# Altium footprint library QFN.PcbLib: 19 footprints (part 1 of 2)
Each footprint in its own frame and in the unit in brackets; x right, y up, seen from the top. Pads: shape width x height; smd on the part's side, far side on the other; paste and mask are expansions set on the pad; w line width, h text height; cw(c..) or ccw(c..) is an arc to the next point about the centre after c.
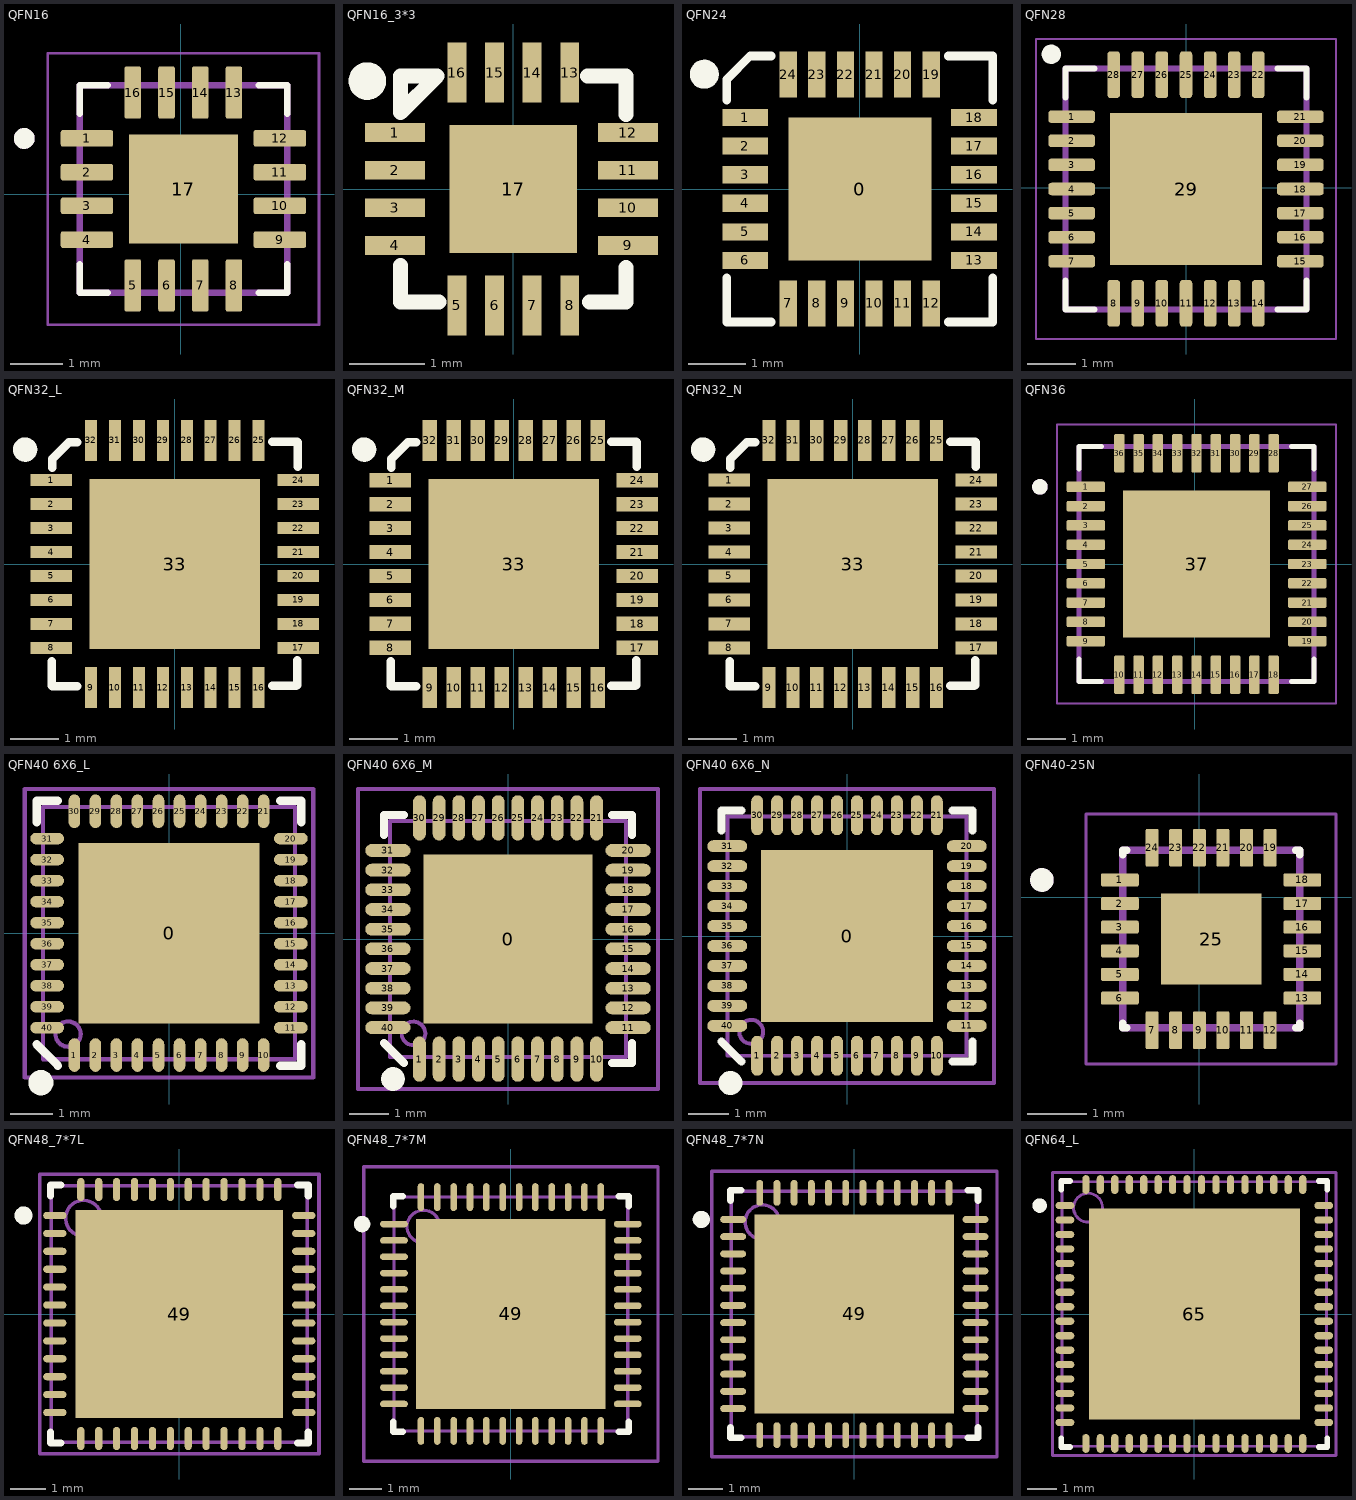
[diagram p0: the footprints below, top view; thin cyan lines are the x and y axes]

## QFN16 [mm]
pads (17):
  rrect25% 1.01x0.32 smd: 1(-1.809,1.077) 2(-1.809,0.427) 3(-1.809,-0.223) 4(-1.809,-0.873) 9(1.911,-0.873) 10(1.911,-0.223) 11(1.911,0.427) 12(1.911,1.077)
  rrect25% 0.32x1.01 smd: 5(-0.924,-1.758) 6(-0.274,-1.758) 7(0.376,-1.758) 8(1.026,-1.758) 13(1.026,1.962) 14(0.376,1.962) 15(-0.274,1.962) 16(-0.924,1.962)
  rect 2.1x2.1 smd paste-0.39: 17(0.051,0.102)
Top Overlay:
  circle w0.2: c-3.019,1.077 r0.1
  lines w0.127: -1.949,-1.353 -1.949,-1.898 -1.404,-1.898 ; -1.949,1.557 -1.949,2.102 -1.404,2.102 ; 1.506,-1.898 2.051,-1.898 2.051,-1.353 ; 1.506,2.102 2.051,2.102 2.051,1.557
Mechanical 13:
  circle w0.2: c-3.019,1.077 r0.1
  lines w0.127: -1.949,-1.898 -1.949,2.102 2.051,2.102 2.051,-1.898 -1.949,-1.898
Mechanical 15:
  lines w0.05: -2.564,-2.513 -2.564,2.717 2.666,2.717 2.666,-2.513 -2.564,-2.513
3D body "step_temp.STEP": height 0.9, standoff 0, extent -1.949,-1.898 2.051,2.102

## QFN16_3*3 [mm] "QFN, 16-Leads, Body 3.0x3.0mm (max), Pitch 0.50mm, IPC Low Density"
height 3
pads (17):
  rect 0.8x0.25 smd: 1(-1.575,0.75) 2(-1.575,0.25) 3(-1.575,-0.25) 4(-1.575,-0.75) 9(1.524,-0.75) 10(1.524,-0.25) 11(1.524,0.25) 12(1.524,0.75)
  rect 0.25x0.8 smd: 5(-0.75,-1.55) 6(-0.25,-1.55) 7(0.25,-1.55) 8(0.75,-1.55) 13(0.75,1.55) 14(0.25,1.55) 15(-0.25,1.55) 16(-0.75,1.55)
  rect 1.7x1.7 smd: 17(0,0)
Top Overlay:
  circle w0.25: c-1.941,1.436 r0.125
  lines w0.2: -1.5,-1.015 -1.5,-1.5 -0.989,-1.5 ; 0.989,1.5 1.5,1.5 1.5,0.989 ; 1.016,-1.5 1.5,-1.5 1.5,-1.041 ; -1.5,1.016 -1.5,1.5 -1.016,1.5 -1.5,1.016
3D body "QFN-16_3x3.STEP": height 0.9, standoff 0, extent -1.549,-1.521 1.493,1.521

## QFN24 [mm]
pads (25):
  rect 2.5x2.5 smd: 0(0.005,0)
  rect 0.8x0.3 smd: 1(-2,1.25) 2(-2,0.75) 3(-2,0.25) 4(-2,-0.25) 5(-2,-0.75) 6(-2,-1.25) 13(2,-1.25) 14(2,-0.75) 15(2,-0.25) 16(2,0.25) 17(2,0.75) 18(2,1.25)
  rect 0.3x0.8 smd: 7(-1.25,-2) 8(-0.75,-2) 9(-0.25,-2) 10(0.25,-2) 11(0.75,-2) 12(1.25,-2) 19(1.25,2) 20(0.75,2) 21(0.25,2) 22(-0.25,2) 23(-0.75,2) 24(-1.25,2)
Top Overlay:
  circle w0.254: c-2.718,2.007 r0.127
  lines w0.15: -2.325,-1.55 -2.325,-2.325 -1.55,-2.325 ; -2.325,1.55 -2.325,1.917 -1.917,2.325 -1.55,2.325 ; 1.55,-2.325 2.325,-2.325 2.325,-1.55 ; 1.55,2.325 2.325,2.325 2.325,1.55
3D body "QFN24.step": height 0.9, standoff 0, extent -1.997,-2.002 2.007,2.002

## QFN28 [mm]
pads (29):
  rrect50% 0.97x0.26 smd: 1(-2.37,1.475) 2(-2.37,0.975) 3(-2.37,0.475) 4(-2.37,-0.025) 5(-2.37,-0.525) 6(-2.37,-1.025) 7(-2.37,-1.525) 15(2.37,-1.525) 16(2.37,-1.025) 17(2.37,-0.525) 18(2.37,-0.025) 19(2.37,0.475) 20(2.37,0.975) 21(2.37,1.475)
  rrect50% 0.26x0.97 smd: 8(-1.5,-2.395) 9(-1,-2.395) 10(-0.5,-2.395) 11(0,-2.395) 12(0.5,-2.395) 13(1,-2.395) 14(1.5,-2.395) 22(1.5,2.345) 23(1,2.345) 24(0.5,2.345) 25(0,2.345) 26(-0.5,2.345) 27(-1,2.345) 28(-1.5,2.345)
  rect 3.15x3.15 smd paste-0.585: 29(0,-0.025)
Top Overlay:
  circle w0.2: c-2.794,2.769 r0.1
  lines w0.127: -2.5,-1.925 -2.5,-2.525 -1.9,-2.525 ; -2.5,1.875 -2.5,2.475 -1.9,2.475 ; 1.9,-2.525 2.5,-2.525 2.5,-1.925 ; 1.9,2.475 2.5,2.475 2.5,1.875
Mechanical 13:
  lines w0.127: -2.5,-2.525 -2.5,2.475 2.5,2.475 2.5,-2.525 -2.5,-2.525
Mechanical 15:
  lines w0.05: -3.11,-3.135 -3.11,3.085 3.11,3.085 3.11,-3.135 -3.11,-3.135
3D body "CP2102GM.STEP": height 1, standoff 0, extent -2.54,-2.485 2.46,2.515

## QFN32_L [mil]
pads (33):
  rect 34x9.84 smd: 1(-101.5,68.92) 2(-101.5,49.23) 3(-101.5,29.54) 4(-101.5,9.85) 5(-101.5,-9.85) 6(-101.5,-29.54) 7(-101.5,-49.23) 8(-101.5,-68.92) 17(101.5,-68.92) 18(101.5,-49.23) 19(101.5,-29.54) 20(101.5,-9.85) 21(101.5,9.85) 22(101.5,29.54) 23(101.5,49.23) 24(101.5,68.92)
  rect 9.84x34 smd: 9(-68.92,-101.5) 10(-49.23,-101.5) 11(-29.54,-101.5) 12(-9.85,-101.5) 13(9.85,-101.5) 14(29.54,-101.5) 15(49.23,-101.5) 16(68.92,-101.5) 25(68.92,101.5) 26(49.23,101.5) 27(29.54,101.5) 28(9.85,101.5) 29(-9.85,101.5) 30(-29.54,101.5) 31(-49.23,101.5) 32(-68.92,101.5)
  rect 140x140 smd: 33(0,0)
Top Overlay:
  circle w10: c-123,94 r5
  lines w7: -101,-80 -101,-100 -100.5,-100.5 -80,-100.5 ; -100.5,79 -100.5,86.5 -87,100 -80,100 ; 80,-100 100,-100 100.5,-99.5 100.5,-79 ; 80,100.5 100.5,100.5 101,100 101,80
3D body "qfn32-5x5.step": height 31.5, standoff 0, extent -98.2,-98.81 99.44,98.82

## QFN32_M [mil]
pads (33):
  rect 34x11.81 smd: 1(-101.5,68.92) 2(-101.5,49.23) 3(-101.5,29.54) 4(-101.5,9.85) 5(-101.5,-9.85) 6(-101.5,-29.54) 7(-101.5,-49.23) 8(-101.5,-68.92) 17(101.5,-68.92) 18(101.5,-49.23) 19(101.5,-29.54) 20(101.5,-9.85) 21(101.5,9.85) 22(101.5,29.54) 23(101.5,49.23) 24(101.5,68.92)
  rect 11.81x34 smd: 9(-68.92,-101.5) 10(-49.23,-101.5) 11(-29.54,-101.5) 12(-9.85,-101.5) 13(9.85,-101.5) 14(29.54,-101.5) 15(49.23,-101.5) 16(68.92,-101.5) 25(68.92,101.5) 26(49.23,101.5) 27(29.54,101.5) 28(9.85,101.5) 29(-9.85,101.5) 30(-29.54,101.5) 31(-49.23,101.5) 32(-68.92,101.5)
  rect 140x140 smd: 33(0,0)
Top Overlay:
  circle w10: c-123,94 r5
  lines w7: -101,-80 -101,-100 -100.5,-100.5 -80,-100.5 ; -100.5,79 -100.5,86.5 -87,100 -80,100 ; 80,-100 100,-100 100.5,-99.5 100.5,-79 ; 80,100.5 100.5,100.5 101,100 101,80
3D body "qfn32-5x5.step": height 31.5, standoff 0, extent -98.2,-98.81 99.44,98.82

## QFN32_N [mil]
pads (33):
  rect 34x10.83 smd: 1(-101.5,68.92) 2(-101.5,49.23) 3(-101.5,29.54) 4(-101.5,9.85) 5(-101.5,-9.85) 6(-101.5,-29.54) 7(-101.5,-49.23) 8(-101.5,-68.92) 17(101.5,-68.92) 18(101.5,-49.23) 19(101.5,-29.54) 20(101.5,-9.85) 21(101.5,9.85) 22(101.5,29.54) 23(101.5,49.23) 24(101.5,68.92)
  rect 10.83x34 smd: 9(-68.92,-101.5) 10(-49.23,-101.5) 11(-29.54,-101.5) 12(-9.85,-101.5) 13(9.85,-101.5) 14(29.54,-101.5) 15(49.23,-101.5) 16(68.92,-101.5) 25(68.92,101.5) 26(49.23,101.5) 27(29.54,101.5) 28(9.85,101.5) 29(-9.85,101.5) 30(-29.54,101.5) 31(-49.23,101.5) 32(-68.92,101.5)
  rect 140x140 smd: 33(0,0)
Top Overlay:
  circle w10: c-123,94 r5
  lines w7: -101,-80 -101,-100 -100.5,-100.5 -80,-100.5 ; -100.5,79 -100.5,86.5 -87,100 -80,100 ; 80,-100 100,-100 100.5,-99.5 100.5,-79 ; 80,100.5 100.5,100.5 101,100 101,80
3D body "qfn32-5x5.step": height 31.5, standoff 0, extent -98.2,-98.81 99.44,98.82

## QFN36 [mm]
pads (37):
  rrect25% 0.99x0.27 smd: 1(-2.819,2) 2(-2.819,1.5) 3(-2.819,1) 4(-2.819,0.5) 5(-2.819,0) 6(-2.819,-0.5) 7(-2.819,-1) 8(-2.819,-1.5) 9(-2.819,-2) 19(2.921,-2) 20(2.921,-1.5) 21(2.921,-1) 22(2.921,-0.5) 23(2.921,0) 24(2.921,0.5) 25(2.921,1) 26(2.921,1.5) 27(2.921,2)
  rrect25% 0.27x0.99 smd: 10(-1.949,-2.87) 11(-1.449,-2.87) 12(-0.949,-2.87) 13(-0.449,-2.87) 14(0.051,-2.87) 15(0.551,-2.87) 16(1.051,-2.87) 17(1.551,-2.87) 18(2.051,-2.87) 28(2.051,2.87) 29(1.551,2.87) 30(1.051,2.87) 31(0.551,2.87) 32(0.051,2.87) 33(-0.449,2.87) 34(-0.949,2.87) 35(-1.449,2.87) 36(-1.949,2.87)
  rect 3.8x3.8 smd paste-3: 37(0.051,0)
Top Overlay:
  circle w0.2: c-4.009,2 r0.1
  lines w0.127: -2.999,-2.455 -2.999,-3.05 -2.404,-3.05 ; -2.999,2.455 -2.999,3.05 -2.404,3.05 ; 2.506,-3.05 3.101,-3.05 3.101,-2.455 ; 2.506,3.05 3.101,3.05 3.101,2.455
Top Paste:
  region: 1.251,-1.2 -1.149,-1.2 -1.149,1.2 1.251,1.2
Mechanical 13:
  circle w0.2: c-4.009,2 r0.1
  lines w0.127: -2.999,-3.05 -2.999,3.05 3.101,3.05 3.101,-3.05 -2.999,-3.05
Mechanical 15:
  lines w0.05: -3.564,-3.615 -3.564,3.615 3.666,3.615 3.666,-3.615 -3.564,-3.615
3D body "ALSRobot-QFN36 6x6.STEP": height 0.9, standoff 0.01, extent -3.052,-3.103 3.153,3.102

## QFN40 6X6_L [mm] "40½Å£¬Ìå¿í£º6x6mm£¬½Å¾à£º0.5mm"
pads (41):
  rect 4.3x4.3 smd mask+0.051: 0(0,0)
  oval 0.275x0.8 smd mask+0.051: 1(-2.25,-2.898) 2(-1.75,-2.898) 3(-1.25,-2.898) 4(-0.75,-2.898) 5(-0.25,-2.898) 6(0.25,-2.898) 7(0.75,-2.898) 8(1.25,-2.898) 9(1.75,-2.898) 10(2.25,-2.898) 21(2.25,2.898) 22(1.75,2.898) 23(1.25,2.898) 24(0.75,2.898) 25(0.25,2.898) 26(-0.25,2.898) 27(-0.75,2.898) 28(-1.25,2.898) 29(-1.75,2.898) 30(-2.25,2.898)
  oval 0.8x0.275 smd mask+0.051: 11(2.898,-2.25) 12(2.898,-1.75) 13(2.898,-1.25) 14(2.898,-0.75) 15(2.898,-0.25) 16(2.898,0.25) 17(2.898,0.75) 18(2.898,1.25) 19(2.898,1.75) 20(2.898,2.25) 31(-2.898,2.25) 32(-2.898,1.75) 33(-2.898,1.25) 34(-2.898,0.75) 35(-2.898,0.25) 36(-2.898,-0.25) 37(-2.898,-0.75) 38(-2.898,-1.25) 39(-2.898,-1.75) 40(-2.898,-2.25)
Top Overlay:
  circle w0.3: c-3.048,-3.556 r0.15
  lines w0.2: -3.15,-2.642 -2.642,-3.15 ; -3.15,2.642 -3.15,3.15 -2.642,3.15 ; 2.642,-3.15 3.15,-3.15 3.15,-2.642 ; 2.642,3.15 3.15,3.15 3.15,2.642
Mechanical 13:
  circle w0.1: c-2.4,-2.4 r0.3
  lines w0.1: -3,-3 3,-3 3,3 -3,3 -3,-3
Mechanical 15:
  circle w0.05: c0,0 r0.35
  lines w0.05: -0.5,0 0.5,0 ; 0,-0.5 0,0.5
  lines w0.1: -3.429,-3.429 3.429,-3.429 3.429,3.429 -3.429,3.429 -3.429,-3.429
3D body "QFN40-6X6.STEP": height 0.95, standoff -0.02, extent -3.01,-3.01 3.01,3.01

## QFN40 6X6_M [mm] "40½Å£¬Ìå¿í£º6x6mm£¬½Å¾à£º0.5mm"
pads (41):
  rect 4.3x4.3 smd mask+0.051: 0(0,0)
  oval 0.325x1.15 smd mask+0.051: 1(-2.25,-3.051) 2(-1.75,-3.051) 3(-1.25,-3.051) 4(-0.75,-3.051) 5(-0.25,-3.051) 6(0.25,-3.051) 7(0.75,-3.051) 8(1.25,-3.051) 9(1.75,-3.051) 10(2.25,-3.051) 21(2.25,3.076) 22(1.75,3.076) 23(1.25,3.076) 24(0.75,3.076) 25(0.25,3.076) 26(-0.25,3.076) 27(-0.75,3.076) 28(-1.25,3.076) 29(-1.75,3.076) 30(-2.25,3.076)
  oval 1.15x0.325 smd mask+0.051: 11(3.051,-2.25) 12(3.051,-1.75) 13(3.051,-1.25) 14(3.051,-0.75) 15(3.051,-0.25) 16(3.051,0.25) 17(3.051,0.75) 18(3.051,1.25) 19(3.051,1.75) 20(3.051,2.25) 31(-3.051,2.25) 32(-3.051,1.75) 33(-3.051,1.25) 34(-3.051,0.75) 35(-3.051,0.25) 36(-3.051,-0.25) 37(-3.051,-0.75) 38(-3.051,-1.25) 39(-3.051,-1.75) 40(-3.051,-2.25)
Top Overlay:
  circle w0.3: c-2.921,-3.556 r0.15
  lines w0.2: -3.15,-2.642 -2.642,-3.15 ; -3.15,2.642 -3.15,3.15 -2.642,3.15 ; 2.642,-3.15 3.15,-3.15 3.15,-2.642 ; 2.642,3.15 3.15,3.15 3.15,2.642
Mechanical 13:
  circle w0.1: c-2.4,-2.4 r0.3
  lines w0.1: -3,-3 -3,3 3,3 3,-3 -3,-3
Mechanical 15:
  circle w0.05: c0,0 r0.35
  lines w0.05: -0.5,0 0.5,0 ; 0,-0.5 0,0.5
  lines w0.1: -3.81,-3.81 3.81,-3.81 3.81,3.81 -3.81,3.81 -3.81,-3.81
3D body "QFN40-6X6.STEP": height 0.9, standoff -0.07, extent -3.01,-3.01 3.01,3.01

## QFN40 6X6_N [mm] "40½Å£¬Ìå¿í£º6x6mm£¬½Å¾à£º0.5mm"
pads (41):
  rect 4.3x4.3 smd mask+0.051: 0(0,0)
  oval 0.3x1 smd mask+0.051: 1(-2.25,-3) 2(-1.75,-3) 3(-1.25,-3) 4(-0.75,-3) 5(-0.25,-3) 6(0.25,-3) 7(0.75,-3) 8(1.25,-3) 9(1.75,-3) 10(2.25,-3) 21(2.25,3.025) 22(1.75,3.025) 23(1.25,3.025) 24(0.75,3.025) 25(0.25,3.025) 26(-0.25,3.025) 27(-0.75,3.025) 28(-1.25,3.025) 29(-1.75,3.025) 30(-2.25,3.025)
  oval 1x0.3 smd mask+0.051: 11(3,-2.25) 12(3,-1.75) 13(3,-1.25) 14(3,-0.75) 15(3,-0.25) 16(3,0.25) 17(3,0.75) 18(3,1.25) 19(3,1.75) 20(3,2.25) 31(-3,2.25) 32(-3,1.75) 33(-3,1.25) 34(-3,0.75) 35(-3,0.25) 36(-3,-0.25) 37(-3,-0.75) 38(-3,-1.25) 39(-3,-1.75) 40(-3,-2.25)
Top Overlay:
  circle w0.3: c-2.921,-3.683 r0.15
  lines w0.2: -3.15,-2.642 -2.642,-3.15 ; -3.15,2.642 -3.15,3.15 -2.642,3.15 ; 2.642,-3.15 3.15,-3.15 3.15,-2.642 ; 2.642,3.15 3.15,3.15 3.15,2.642
Mechanical 13:
  circle w0.1: c-2.4,-2.4 r0.3
  lines w0.1: -3,-3 -3,3 3,3 3,-3 -3,-3
Mechanical 15:
  circle w0.05: c0,0 r0.35
  lines w0.05: -0.5,0 0.5,0 ; 0,-0.5 0,0.5
  lines w0.1: -3.683,-3.683 -3.683,3.683 3.683,3.683 3.683,-3.683 -3.683,-3.683
3D body "QFN40-6X6.STEP": height 0.95, standoff -0.02, extent -3.01,-3.01 3.01,3.01

## QFN40-25N [mm]
pads (25):
  rrect25% 0.64x0.22 smd: 1(-1.342,0.289) 2(-1.342,-0.111) 3(-1.342,-0.511) 4(-1.342,-0.911) 5(-1.342,-1.311) 6(-1.342,-1.711) 13(1.748,-1.711) 14(1.748,-1.311) 15(1.748,-0.911) 16(1.748,-0.511) 17(1.748,-0.111) 18(1.748,0.289)
  rrect25% 0.22x0.64 smd: 7(-0.797,-2.256) 8(-0.397,-2.256) 9(0.003,-2.256) 10(0.403,-2.256) 11(0.803,-2.256) 12(1.203,-2.256) 19(1.203,0.834) 20(0.803,0.834) 21(0.403,0.834) 22(0.003,0.834) 23(-0.397,0.834) 24(-0.797,0.834)
  rect 1.7x1.54 smd paste-2: 25(0.203,-0.711)
Top Overlay:
  circle w0.2: c-2.662,0.289 r0.1
  lines w0.127: -1.297,-2.141 -1.297,-2.211 -1.227,-2.211 ; -1.297,0.719 -1.297,0.789 -1.227,0.789 ; 1.633,-2.211 1.703,-2.211 1.703,-2.141 ; 1.633,0.789 1.703,0.789 1.703,0.719
Top Paste:
  region: 0.741,-1.198 -0.334,-1.198 -0.334,-0.224 0.741,-0.224
Mechanical 13:
  circle w0.2: c-2.662,0.289 r0.1
  lines w0.127: -1.297,-2.211 1.703,-2.211 1.703,0.789 -1.297,0.789 -1.297,-2.211
Mechanical 15:
  lines w0.05: -1.912,-2.826 -1.912,1.404 2.318,1.404 2.318,-2.826 -1.912,-2.826
3D body "step_temp.STEP": height 1, standoff -0.05, extent -1.297,-2.211 1.703,0.789

## QFN48_7*7L [mm] "QFN, 48-Leads, Body 7x7mm, Pitch 0.5mm, IPC High Density"
height 0.9
pads (49):
  oval 0.65x0.2 smd: 1(-3.475,2.75) 2(-3.475,2.25) 3(-3.475,1.75) 4(-3.475,1.25) 5(-3.475,0.75) 6(-3.475,0.25) 7(-3.475,-0.25) 8(-3.475,-0.75) 9(-3.475,-1.25) 10(-3.475,-1.75) 11(-3.475,-2.25) 12(-3.475,-2.75) 25(3.475,-2.75) 26(3.475,-2.25) 27(3.475,-1.75) 28(3.475,-1.25) 29(3.475,-0.75) 30(3.475,-0.25) 31(3.475,0.25) 32(3.475,0.75) 33(3.475,1.25) 34(3.475,1.75) 35(3.475,2.25) 36(3.475,2.75)
  oval 0.2x0.65 smd: 13(-2.75,-3.475) 14(-2.25,-3.475) 15(-1.75,-3.475) 16(-1.25,-3.475) 17(-0.75,-3.475) 18(-0.25,-3.475) 19(0.25,-3.475) 20(0.75,-3.475) 21(1.25,-3.475) 22(1.75,-3.475) 23(2.25,-3.475) 24(2.75,-3.475) 37(2.75,3.475) 38(2.25,3.475) 39(1.75,3.475) 40(1.25,3.475) 41(0.75,3.475) 42(0.25,3.475) 43(-0.25,3.475) 44(-0.75,3.475) 45(-1.25,3.475) 46(-1.75,3.475) 47(-2.25,3.475) 48(-2.75,3.475)
  rect 5.8x5.8 smd: 49(0,0)
Top Overlay:
  circle w0.25: c-4.35,2.75 r0.125
  lines w0.2: -3.6,-3.3 -3.6,-3.6 -3.3,-3.6 ; -3.6,3.3 -3.6,3.6 -3.3,3.6 ; 3.3,-3.6 3.6,-3.6 3.6,-3.3 ; 3.3,3.6 3.6,3.6 3.6,3.3
Mechanical 13:
  circle w0.1: c-2.675,2.675 r0.5
  lines w0.1: -3.575,-3.575 3.575,-3.575 3.575,3.575 -3.575,3.575 -3.575,-3.575
Mechanical 15:
  lines w0.1: -0.5,0 0.5,0 ; 0,-0.5 0,0.5 ; -3.9,-3.9 3.9,-3.9 3.9,3.9 -3.9,3.9 -3.9,-3.9
3D body "QFN48 7x7.STEP": height 0.78, standoff -0.02, extent -3.51,-3.51 3.51,3.51

## QFN48_7*7M [mm] "QFN, 48-Leads, Body 7x7mm, Pitch 0.5mm, IPC Low Density"
height 0.9
pads (49):
  oval 0.85x0.2 smd: 1(-3.575,2.75) 2(-3.575,2.25) 3(-3.575,1.75) 4(-3.575,1.25) 5(-3.575,0.75) 6(-3.575,0.25) 7(-3.575,-0.25) 8(-3.575,-0.75) 9(-3.575,-1.25) 10(-3.575,-1.75) 11(-3.575,-2.25) 12(-3.575,-2.75) 25(3.575,-2.75) 26(3.575,-2.25) 27(3.575,-1.75) 28(3.575,-1.25) 29(3.575,-0.75) 30(3.575,-0.25) 31(3.575,0.25) 32(3.575,0.75) 33(3.575,1.25) 34(3.575,1.75) 35(3.575,2.25) 36(3.575,2.75)
  oval 0.2x0.85 smd: 13(-2.75,-3.575) 14(-2.25,-3.575) 15(-1.75,-3.575) 16(-1.25,-3.575) 17(-0.75,-3.575) 18(-0.25,-3.575) 19(0.25,-3.575) 20(0.75,-3.575) 21(1.25,-3.575) 22(1.75,-3.575) 23(2.25,-3.575) 24(2.75,-3.575) 37(2.75,3.575) 38(2.25,3.575) 39(1.75,3.575) 40(1.25,3.575) 41(0.75,3.575) 42(0.25,3.575) 43(-0.25,3.575) 44(-0.75,3.575) 45(-1.25,3.575) 46(-1.75,3.575) 47(-2.25,3.575) 48(-2.75,3.575)
  rect 5.8x5.8 smd: 49(0,0)
Top Overlay:
  circle w0.25: c-4.55,2.75 r0.125
  lines w0.2: -3.6,-3.3 -3.6,-3.6 -3.3,-3.6 ; -3.6,3.3 -3.6,3.6 -3.3,3.6 ; 3.3,-3.6 3.6,-3.6 3.6,-3.3 ; 3.3,3.6 3.6,3.6 3.6,3.3
Mechanical 13:
  circle w0.1: c-2.675,2.675 r0.5
  lines w0.1: -3.575,-3.575 3.575,-3.575 3.575,3.575 -3.575,3.575 -3.575,-3.575
Mechanical 15:
  lines w0.1: -0.5,0 0.5,0 ; 0,-0.5 0,0.5 ; -4.5,-4.5 4.5,-4.5 4.5,4.5 -4.5,4.5 -4.5,-4.5
3D body "QFN48 7x7.STEP": height 0.78, standoff -0.02, extent -3.51,-3.51 3.51,3.51

## QFN48_7*7N [mm] "QFN, 48-Leads, Body 7x7mm, Pitch 0.5mm, IPC Medium Density"
height 0.9
pads (49):
  oval 0.75x0.2 smd: 1(-3.525,2.75) 2(-3.525,2.25) 3(-3.525,1.75) 4(-3.525,1.25) 5(-3.525,0.75) 6(-3.525,0.25) 7(-3.525,-0.25) 8(-3.525,-0.75) 9(-3.525,-1.25) 10(-3.525,-1.75) 11(-3.525,-2.25) 12(-3.525,-2.75) 25(3.525,-2.75) 26(3.525,-2.25) 27(3.525,-1.75) 28(3.525,-1.25) 29(3.525,-0.75) 30(3.525,-0.25) 31(3.525,0.25) 32(3.525,0.75) 33(3.525,1.25) 34(3.525,1.75) 35(3.525,2.25) 36(3.525,2.75)
  oval 0.2x0.75 smd: 13(-2.75,-3.525) 14(-2.25,-3.525) 15(-1.75,-3.525) 16(-1.25,-3.525) 17(-0.75,-3.525) 18(-0.25,-3.525) 19(0.25,-3.525) 20(0.75,-3.525) 21(1.25,-3.525) 22(1.75,-3.525) 23(2.25,-3.525) 24(2.75,-3.525) 37(2.75,3.525) 38(2.25,3.525) 39(1.75,3.525) 40(1.25,3.525) 41(0.75,3.525) 42(0.25,3.525) 43(-0.25,3.525) 44(-0.75,3.525) 45(-1.25,3.525) 46(-1.75,3.525) 47(-2.25,3.525) 48(-2.75,3.525)
  rect 5.8x5.8 smd: 49(0,0)
Top Overlay:
  circle w0.25: c-4.45,2.75 r0.125
  lines w0.2: -3.6,-3.3 -3.6,-3.6 -3.3,-3.6 ; -3.6,3.3 -3.6,3.6 -3.3,3.6 ; 3.3,-3.6 3.6,-3.6 3.6,-3.3 ; 3.3,3.6 3.6,3.6 3.6,3.3
Mechanical 13:
  circle w0.1: c-2.675,2.675 r0.5
  lines w0.1: -3.575,-3.575 3.575,-3.575 3.575,3.575 -3.575,3.575 -3.575,-3.575
Mechanical 15:
  lines w0.1: -0.5,0 0.5,0 ; 0,-0.5 0,0.5 ; -4.15,-4.15 4.15,-4.15 4.15,4.15 -4.15,4.15 -4.15,-4.15
3D body "QFN48 7x7.STEP": height 0.78, standoff -0.02, extent -3.51,-3.51 3.51,3.51

## QFN64_L [mm] "QFN, 64-Leads, Body 9x9mm, Pitch 0.5mm, IPC High Density"
height 1
pads (65):
  oval 0.65x0.25 smd: 1(-4.475,3.75) 2(-4.475,3.25) 3(-4.475,2.75) 4(-4.475,2.25) 5(-4.475,1.75) 6(-4.475,1.25) 7(-4.475,0.75) 8(-4.475,0.25) 9(-4.475,-0.25) 10(-4.475,-0.75) 11(-4.475,-1.25) 12(-4.475,-1.75) 13(-4.475,-2.25) 14(-4.475,-2.75) 15(-4.475,-3.25) 16(-4.475,-3.75) 33(4.475,-3.75) 34(4.475,-3.25) 35(4.475,-2.75) 36(4.475,-2.25) 37(4.475,-1.75) 38(4.475,-1.25) 39(4.475,-0.75) 40(4.475,-0.25) 41(4.475,0.25) 42(4.475,0.75) 43(4.475,1.25) 44(4.475,1.75) 45(4.475,2.25) 46(4.475,2.75) 47(4.475,3.25) 48(4.475,3.75)
  oval 0.25x0.65 smd: 17(-3.75,-4.475) 18(-3.25,-4.475) 19(-2.75,-4.475) 20(-2.25,-4.475) 21(-1.75,-4.475) 22(-1.25,-4.475) 23(-0.75,-4.475) 24(-0.25,-4.475) 25(0.25,-4.475) 26(0.75,-4.475) 27(1.25,-4.475) 28(1.75,-4.475) 29(2.25,-4.475) 30(2.75,-4.475) 31(3.25,-4.475) 32(3.75,-4.475) 49(3.75,4.475) 50(3.25,4.475) 51(2.75,4.475) 52(2.25,4.475) 53(1.75,4.475) 54(1.25,4.475) 55(0.75,4.475) 56(0.25,4.475) 57(-0.25,4.475) 58(-0.75,4.475) 59(-1.25,4.475) 60(-1.75,4.475) 61(-2.25,4.475) 62(-2.75,4.475) 63(-3.25,4.475) 64(-3.75,4.475)
  rect 7.3x7.3 smd: 65(0,0)
Top Overlay:
  circle w0.25: c-5.35,3.75 r0.125
  lines w0.2: -4.6,-4.3 -4.6,-4.6 -4.3,-4.6 ; -4.6,4.3 -4.6,4.6 -4.3,4.6 ; 4.3,-4.6 4.6,-4.6 4.6,-4.3 ; 4.3,4.6 4.6,4.6 4.6,4.3
Mechanical 13:
  circle w0.1: c-3.675,3.675 r0.5
  lines w0.1: -4.575,-4.575 -4.575,4.575 4.575,4.575 4.575,-4.575 -4.575,-4.575
Mechanical 15:
  lines w0.1: -0.5,0 0.5,0 ; 0,-0.5 0,0.5 ; -4.9,-4.9 -4.9,4.9 4.9,4.9 4.9,-4.9 -4.9,-4.9
3D body "User Library-QFN64-2.step": height 0.9, standoff 0, extent -4.52,-4.52 4.52,4.52